# Altium integrated library MB1419.IntLib: 95 symbols
Pins are listed as number, name and electrical type; pins without a type are passive.

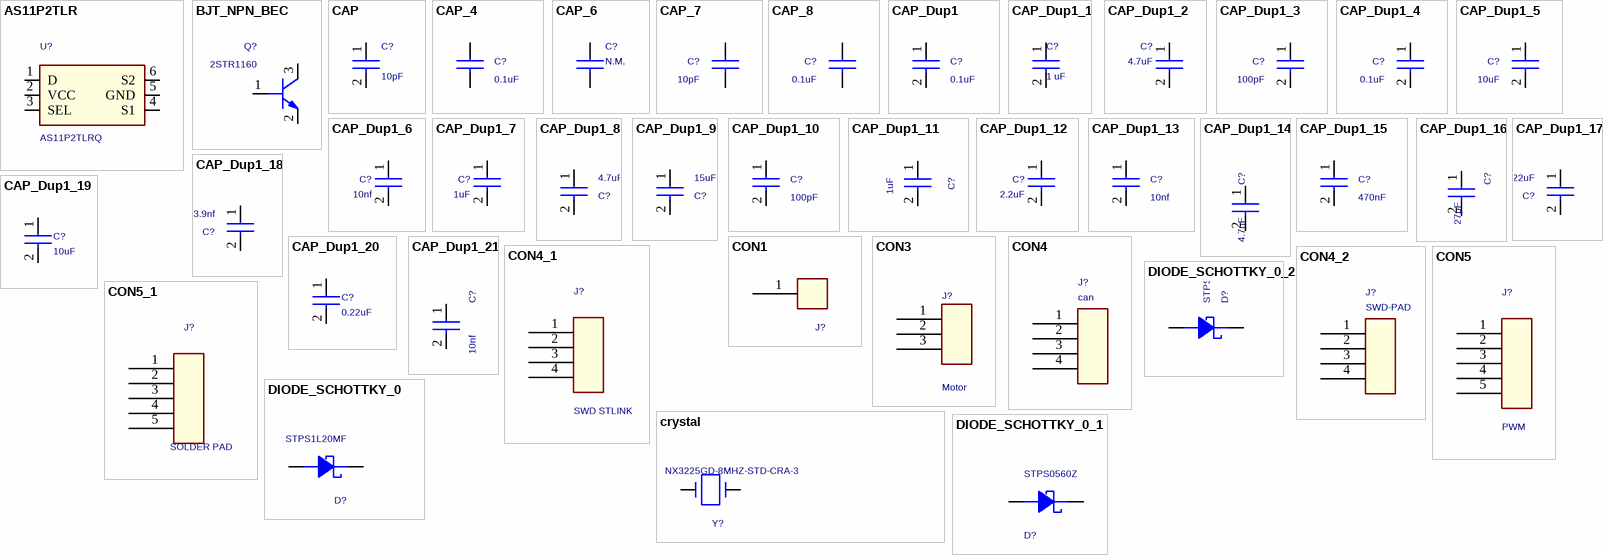
[diagram p0: symbols AS11P2TLR to DIODE_SCHOTTKY_0_2]

## AS11P2TLR
designator U?, comment AS11P2TLRQ
IC ANLG SWITCH SGL SPDT 6QFN; Manufacturer: STMicroelectronics; PART_NUMBER: TMP-378; Manufacturer PN: AS11P2TLRQ; CLASS: IC; Package Size: 6-UFDFN
footprint DIP-14
footprint son6p40_120x100x55l35x20
pins: 1 D, 2 VCC, 3 SEL, 4 S1, 5 GND, 6 S2

## BJT_NPN_BEC
designator Q?, comment 2STR1160
TRANS NPN 60V 1A SOT-23; PART_NUMBER: TMP-433; Manufacturer: STMicroelectronics; CLASS: DISCRETE; Package Size: TO-236-3, SC-59, SOT-23-3; Polarity: NPN; Manufacturer PN: 2STR1160
footprint sot23-3p97_255x140l40x40n
pins: 1 B, 2 E, 3 C

## CAP
designator C?, comment 10pF
CAP CER 10PF 10V C0G/NP0 0402; Manufacturer PN: 885012005007; Manufacturer: Wurth Electronics Inc.; PART_NUMBER: TMP-395; CLASS: DISCRETE; Tolerance: 5%; Temperature Coefficient: C0G, NP0; Dielectric Type: Capacitors; Rated Voltage: 10V; Package Size: 0402 (1005 Metric)
footprint C_0402
pins: 1, 2

## CAP_4
designator C?, comment 0.1uF
CAP CER 0.1UF 16V X7R 0402; Manufacturer PN: 885012205037; Manufacturer: Wurth Electronics Inc.; PART_NUMBER: CAP-00000053; CLASS: DISCRETE; Tolerance: 10%; Dielectric Type: Capacitors; Rated Voltage: 16V; Temperature Coefficient: X7R; Package Size: 0402 (1005 Metric)
footprint C_0402
pins: 1, 2

## CAP_6
designator C?, comment N.M.
CAP CER 0402-NOT MOUNTED; PART_NUMBER: TMP-408; CLASS: DISCRETE; Package Size: 0402 (1005 Metric)
footprint C_0402
pins: 1, 2

## CAP_7
designator C?, comment 10pF
CAP CER 10PF 10V C0G/NP0 0402; PART_NUMBER: TMP-395; Manufacturer: Wurth Electronics Inc.; Manufacturer PN: 885012005007; Dielectric Type: Capacitors; Temperature Coefficient: C0G, NP0; Tolerance: 5%; CLASS: DISCRETE; Package Size: 0402 (1005 Metric); Rated Voltage: 10V
footprint C_0402
pins: 1, 2

## CAP_8
designator C?, comment 0.1uF
CAP CER 0.1UF 16V X7R 0402; PART_NUMBER: CAP-00000053; Manufacturer: Wurth Electronics Inc.; Manufacturer PN: 885012205037; Dielectric Type: Capacitors; Tolerance: 10%; CLASS: DISCRETE; Package Size: 0402 (1005 Metric); Temperature Coefficient: X7R; Rated Voltage: 16V
footprint C_0402
pins: 1, 2

## CAP_Dup1
designator C?, comment 0.1uF
CAP CER 0.1UF 16V X7R 0402; PART_NUMBER: CAP-00000053; Manufacturer: Wurth Electronics Inc.; Manufacturer PN: 885012205037; Dielectric Type: Capacitors; Tolerance: 10%; CLASS: DISCRETE; Package Size: 0402 (1005 Metric); Temperature Coefficient: X7R; Rated Voltage: 16V
footprint C_0402
pins: 1, 2

## CAP_Dup1_1
designator C?, comment 1 uF
CAP CER 1UF 16V X5R 0603; PART_NUMBER: TMP-302; Manufacturer: Yageo; Manufacturer PN: CC0603KRX5R7BB105; Dielectric Type: Capacitors; Tolerance: 10%; CLASS: DISCRETE; Package Size: 0603 (1608 Metric); Temperature Coefficient: X5R; Rated Voltage: 16V
footprint C_0603
pins: 1, 2

## CAP_Dup1_2
designator C?, comment 4.7uF
CAP CER 4.7UF 16V X5R 0805; PART_NUMBER: TMP-410; Manufacturer: Wurth Electronics Inc.; Manufacturer PN: 885012107013; Dielectric Type: Capacitors; Tolerance: 20%; CLASS: DISCRETE; Package Size: 0805 (2012 Metric); Temperature Coefficient: X5R; Rated Voltage: 16V
footprint C_0805
pins: 1, 2

## CAP_Dup1_3
designator C?, comment 100pF
CAP CER 100PF 10V C0G/NP0 0402; PART_NUMBER: TMP-412; Manufacturer: Wurth Electronics Inc.; Manufacturer PN: 885012005013; Dielectric Type: Capacitors; Temperature Coefficient: C0G, NP0; Tolerance: 5%; CLASS: DISCRETE; Package Size: 0402 (1005 Metric); Rated Voltage: 10V
footprint C_0402
pins: 1, 2

## CAP_Dup1_4
designator C?, comment 0.1uF
CAP CER 0.1UF 16V X7R 0603; Manufacturer PN: 885012206046; Manufacturer: Wurth Electronics Inc.; PART_NUMBER: CAP-00000052; CLASS: DISCRETE; Tolerance: 10%; Dielectric Type: Capacitors; Rated Voltage: 16V; Temperature Coefficient: X7R; Package Size: 0603 (1608 Metric)
footprint C_0603
pins: 1, 2

## CAP_Dup1_5
designator C?, comment 10uF
CAP CER 10UF 16V X5R 0805; Manufacturer PN: 885012107014; Manufacturer: Wurth Electronics Inc.; PART_NUMBER: TMP-409; CLASS: DISCRETE; Tolerance: 20%; Dielectric Type: Capacitors; Rated Voltage: 16V; Temperature Coefficient: X5R; Package Size: 0805 (2012 Metric)
footprint C_0805
pins: 1, 2

## CAP_Dup1_6
designator C?, comment 10nf
CAP CER 10000PF 16V X7R 0402; PART_NUMBER: TMP-422; Manufacturer: Wurth Electronics Inc.; Manufacturer PN: 885012205031; Dielectric Type: Capacitors; Tolerance: 10%; CLASS: DISCRETE; Package Size: 0402 (1005 Metric); Temperature Coefficient: X7R; Rated Voltage: 16V
footprint C_0402
pins: 1, 2

## CAP_Dup1_7
designator C?, comment 1uF
CAP CER 1UF 25V X5R 0402; PART_NUMBER: CAP-00000006; Manufacturer: Murata Electronics North America; Manufacturer PN: GRM155R61E105KA12D; Dielectric Type: Capacitors; Tolerance: 10%; CLASS: DISCRETE; Package Size: 0402 (1005 Metric); Temperature Coefficient: X5R; Rated Voltage: 25V
footprint C_0402
pins: 1, 2

## CAP_Dup1_8
designator C?, comment 4.7uF
CAP CER 4.7UF 10V X5R 0603; Manufacturer PN: 885012106012; Manufacturer: Wurth Electronics Inc.; PART_NUMBER: TMP-414; CLASS: DISCRETE; Tolerance: 20%; Dielectric Type: Capacitors; Rated Voltage: 10V; Temperature Coefficient: X5R; Package Size: 0603 (1608 Metric)
footprint C_0603
pins: 1, 2

## CAP_Dup1_9
designator C?, comment 15uF
CAP CER 15UF 35V X5R 0805; PART_NUMBER: TMP-773; Manufacturer: TDK Corporation; Manufacturer PN: C2012X5R1V156M125AC; ALT_SYMBOLS: C_0805_hd; Dielectric Type: Capacitors; Tolerance: 20%; CLASS: DISCRETE; Package Size: 0805 (2012 Metric); Temperature Coefficient: X5R; Rated Voltage: 35V
footprint C_0805
footprint C_0805_HD
pins: 1, 2

## CAP_Dup1_10
designator C?, comment 100pF
CAP CER 100PF 25V X7R 0402; PART_NUMBER: TMP-426; Manufacturer: Wurth Electronics Inc.; Manufacturer PN: 885012205038; Dielectric Type: Capacitors; Tolerance: 10%; CLASS: DISCRETE; Package Size: 0402 (1005 Metric); Temperature Coefficient: X7R; Rated Voltage: 25V
footprint C_0402
pins: 1, 2

## CAP_Dup1_11
designator C?, comment 1uF
CAP CER 1UF 25V X7R 0603; PART_NUMBER: TMP-446; Manufacturer: Wurth Electronics Inc.; Manufacturer PN: 885012206076; ALT_SYMBOLS: c_0603_hd; Dielectric Type: Capacitors; Tolerance: 10%; CLASS: DISCRETE; Package Size: 0603 (1608 Metric); Temperature Coefficient: X7R; Rated Voltage: 25V
footprint C_0603
footprint C_0603_HD
pins: 1, 2

## CAP_Dup1_12
designator C?, comment 2.2uF
CAP CER 2.2UF 10V X5R 0402; PART_NUMBER: TMP-449; Manufacturer: Wurth Electronics Inc.; Manufacturer PN: 885012105013; Dielectric Type: Capacitors; Tolerance: 20%; CLASS: DISCRETE; Package Size: 0402 (1005 Metric); Temperature Coefficient: X5R; Rated Voltage: 10V
footprint C_0402
pins: 1, 2

## CAP_Dup1_13
designator C?, comment 10nf
CAP CER 10000PF 100V X7R 0603; PART_NUMBER: CAP-00000040; Manufacturer: YAGEO; Manufacturer PN: CC0603KRX7R0BB103; Dielectric Type: Capacitors; Tolerance: 20%; CLASS: DISCRETE; Package Size: 0603 (1608 Metric); Temperature Coefficient: X7R; Rated Voltage: 100V
footprint C_0603
pins: 1, 2

## CAP_Dup1_14
designator C?, comment 4.7nF
CAP CER 4700PF 16V X7R 0402; Manufacturer PN: 885012205029; Manufacturer: Wurth Electronics Inc.; PART_NUMBER: TMP-417; CLASS: DISCRETE; Tolerance: 10%; Dielectric Type: Capacitors; Rated Voltage: 16V; Temperature Coefficient: X7R; Package Size: 0402 (1005 Metric)
footprint C_0402
pins: 1, 2

## CAP_Dup1_15
designator C?, comment 470nF
CAP CER 0.47UF 25V X7R 0603; PART_NUMBER: TMP-428; Manufacturer: Wurth Electronics Inc.; Manufacturer PN: 885012206075; ALT_SYMBOLS: c_0603_hd; Dielectric Type: Capacitors; Tolerance: 10%; CLASS: DISCRETE; Package Size: 0603 (1608 Metric); Temperature Coefficient: X7R; Rated Voltage: 25V
footprint C_0603
footprint C_0603_HD
pins: 1, 2

## CAP_Dup1_16
designator C?, comment 27pF
CAP CER 27PF 25V C0G/NP0 0402; Manufacturer PN: CC0402JRNPO9BN270; Manufacturer: YAGEO; PART_NUMBER: TMP-416; CLASS: DISCRETE; Tolerance: 5%; Temperature Coefficient: C0G, NP0; Dielectric Type: Capacitors; Rated Voltage: 25V; Package Size: 0402 (1005 Metric)
footprint C_0402
pins: 1, 2

## CAP_Dup1_17
designator C?, comment 22uF
CAP CER 22UF 25V X5R 1206; Manufacturer PN: CL31A226KAHNNNE; Manufacturer: Samsung Electro-Mechanics; PART_NUMBER: TMP-421; CLASS: DISCRETE; Tolerance: 20%; Dielectric Type: Capacitors; Rated Voltage: 25V; Temperature Coefficient: X5R; Package Size: 1206 (3216 Metric)
footprint C_1206
pins: 1, 2

## CAP_Dup1_18
designator C?, comment 3.9nf
CAP CER 3900PF 16V X7R 0402; Manufacturer PN: C0402C392K4RAC7867; Manufacturer: KEMET; PART_NUMBER: TMP-419; CLASS: DISCRETE; Tolerance: 10%; Dielectric Type: Capacitors; Rated Voltage: 16V; Temperature Coefficient: X7R; Package Size: 0402 (1005 Metric)
footprint C_0402
pins: 1, 2

## CAP_Dup1_19
designator C?, comment 10uF
CAP CER 10UF 50V X7R 1206; Manufacturer PN: CL31B106KBHNNNE; Manufacturer: Samsung Electro-Mechanics America, Inc.; PART_NUMBER: CAP-00000016; CLASS: DISCRETE; Tolerance: 10%; Dielectric Type: Capacitors; Rated Voltage: 50V; Temperature Coefficient: X7R; Package Size: 1206 (3216 Metric)
footprint C_1206
pins: 1, 2

## CAP_Dup1_20
designator C?, comment 0.22uF
CAP CER 0.22UF 50V X7R 0603; Manufacturer PN: CGA3E3X7R1H224K080AD; Manufacturer: TDK Corporation; PART_NUMBER: TMP-138; CLASS: DISCRETE; Tolerance: 10%; Dielectric Type: Capacitors; ALT_SYMBOLS: c_0603_hd; Rated Voltage: 50V; Temperature Coefficient: X7R; Package Size: 0603 (1608 Metric)
footprint C_0603
footprint C_0603_HD
pins: 1, 2

## CAP_Dup1_21
designator C?, comment 10nf
CAP CER 10000PF 10V X7R 0402; PART_NUMBER: CAP-00000003; Manufacturer: Wurth Electronics Inc.; Manufacturer PN: 885012205012; Dielectric Type: Capacitors; Tolerance: 10%; CLASS: DISCRETE; Package Size: 0402 (1005 Metric); Temperature Coefficient: X7R; Rated Voltage: 10V
footprint C_0402
pins: 1, 2

## CON1
designator J?  (value not drawn)
SOLDER PADS
footprint wire1_220s
pins: 1

## CON3
designator J?, comment Motor
SOLDER PADS
footprint conn_motor_out
pins: 1, 2, 3

## CON4
designator J?, comment can
SOLDER PADS
footprint SOLDER_PAD_4PIN_SMD
pins: 1, 2, 3, 4

## CON4_1
designator J?, comment SWD STLINK
SOLDER PADS
footprint strip4_100m_v
pins: 1, 2, 3, 4

## CON4_2
designator J?, comment SWD-PAD
SOLDER PADS
footprint SOLDER_PAD_4PIN_rect_SMD
pins: 1, 2, 3, 4

## CON5
designator J?, comment PWM
SOLDER PADS
footprint SOLDER_PAD_5PIN_SMD
pins: 1, 2, 3, 4, 5

## CON5_1
designator J?, comment SOLDER PAD
SOLDER PADS
footprint SOLDER_PAD_5PIN_SMD
pins: 1, 2, 3, 4, 5

## crystal
designator Y?, comment NX3225GD-8MHZ-STD-CRA-3
CRYSTAL 8.0000MHZ 8PF SMD; Manufacturer: NDK America, Inc.; PART_NUMBER: TMP-435; CLASS: DISCRETE; Frequency Tolerance: 50ppm; Frequency Stability: 150ppm; Manufacturer PN: NX3225GD-8MHZ-STD-CRA-3; Package Size: 0.126" L x 0.098" W (3.20mm x 2.50mm)
footprint xtaldfn2_320x250x100l130x230
pins: 1, 2

## DIODE_SCHOTTKY_0
designator D?, comment STPS1L20MF
DIODE SCHOTTKY 20V 1A STMITEFLAT; Manufacturer: STMicroelectronics; PART_NUMBER: TMP-380; CLASS: DISCRETE; Rated Voltage: 430mV @ 1A; Manufacturer PN: STPS1L20MF; Package Size: DO-222AA
footprint do216-aa-flat
pins: A, C

## DIODE_SCHOTTKY_0_1
designator D?, comment STPS0560Z
DIODE SCHOTTKY 60V 500MA SOD123; Manufacturer: STMicroelectronics; PART_NUMBER: TMP-373; CLASS: DISCRETE; Rated Voltage: 530mV @ 500mA; Manufacturer PN: STPS0560Z; Package Size: SOD-123
footprint SOD_123
pins: A, C

## DIODE_SCHOTTKY_0_2
designator D?, comment STPS1L40M
DIODE SCHOTTKY 40V 1A STMITE; PART_NUMBER: TMP-372; Manufacturer: STMicroelectronics; Rated Voltage: 460mV @ 1A; CLASS: DISCRETE; Package Size: DO-216AA; Manufacturer PN: STPS1L40M
footprint do216-aa_stmite
pins: A, C

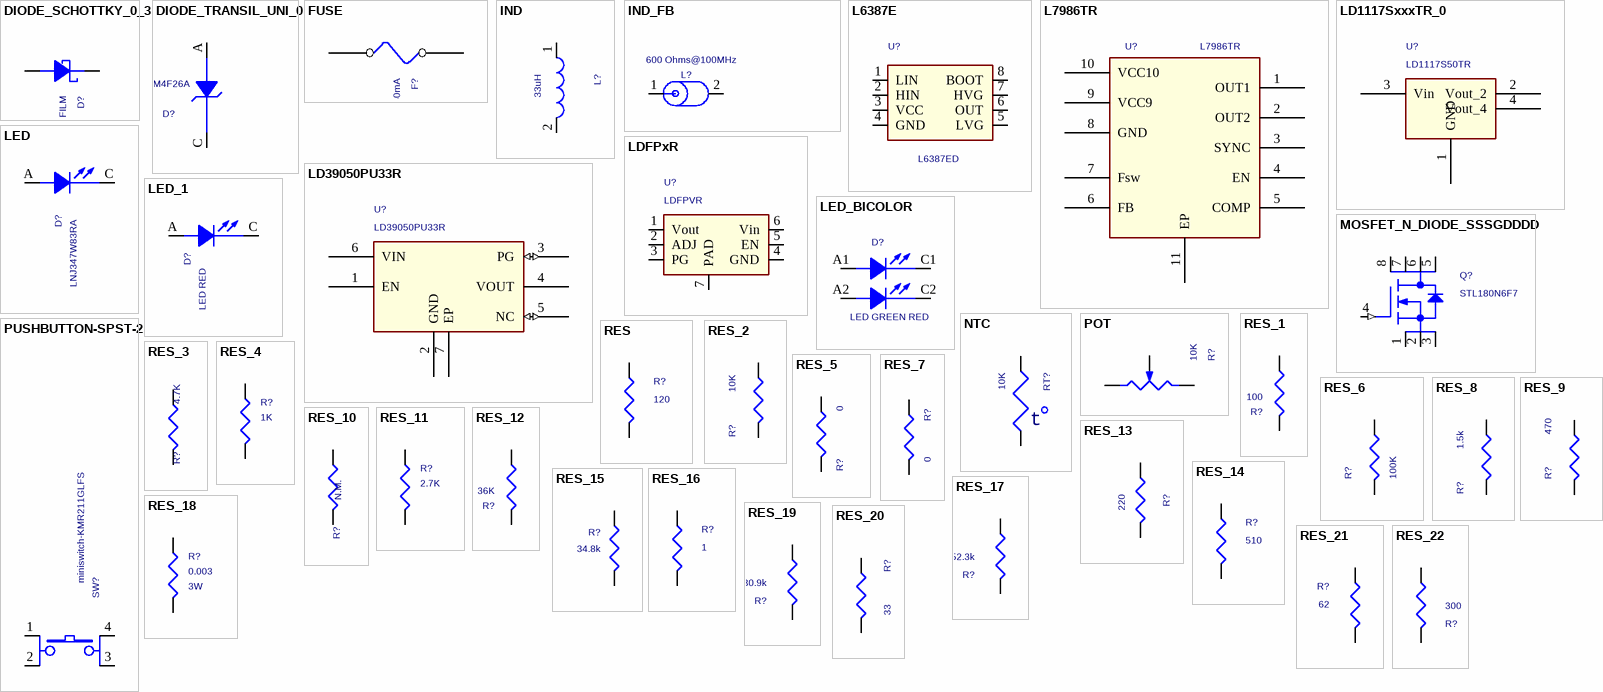
[diagram p1: symbols DIODE_SCHOTTKY_0_3 to RES_22]

## DIODE_SCHOTTKY_0_3
designator D?, comment BAT30KFILM
DIODE SCHOTTKY 30V 300MA SOD523; PART_NUMBER: TMP-46; Manufacturer: STMicroelectronics; Rated Voltage: 530mV @ 300mA; CLASS: DISCRETE; Package Size: SC-79, SOD-523; Manufacturer PN: BAT30KFILM
footprint sodfl160x80x65l30x30n
pins: A, C

## DIODE_TRANSIL_UNI_0
designator D?, comment SMM4F26A
TVS DIODE 26VWM 53.5VC DO222AA; Manufacturer PN: SMM4F26A-TR; Manufacturer: STMicroelectronics; PART_NUMBER: TMP-376; CLASS: DISCRETE; Package Size: DO-216AA FLAT
footprint do216-aa-flat
pins: A, C

## FUSE
designator F?, comment 250mA
FUSE BOARD MNT 250MA 32VDC 0402; Manufacturer Code: 0435.250KRS; Manufacturer: Littelfuse Inc.; PART_NUMBER: TMP-439; RS/Distrelec/Other Code: MOUSER: 576-0435.250KRS; CLASS: DISCRETE; Package Size: 0.039" L x 0.020" W x 0.013" H (0.99mm x 0.51mm x 0.33mm); Manufacturer PN: 0435.250KRS
footprint f_0402
pins: 1, 2

## IND
designator L?, comment 33uH
Fixed Inductors LPS4018 Low Profile 33uH 0.8A 20% SMD; Manufacturer PN: LPS4018-333MRB; Manufacturer: Coilcraft; PART_NUMBER: TMP-377; CLASS: DISCRETE; Tolerance: 20%; Package Size: 3.9x3.9x1.7
footprint ind_Coilcraft-LPS4018
pins: 1, 2

## IND_FB
designator L?, comment 600 Ohms@100MHz
FERRITE BEAD 600 OHM 0402 1LN; Manufacturer PN: BLM15BX601SN1D; Manufacturer: Murata Electronics North America; PART_NUMBER: TMP-492; CLASS: DISCRETE; Package Size: 0402 (1005 Metric)
footprint L_0402
pins: 1, 2

## L6387E
designator U?, comment L6387ED
IC DRIVER HI/LO SIDE HV 8-SOIC; Manufacturer: STMicroelectronics; PART_NUMBER: TMP-367; Supply Voltage: 17V (Max); Manufacturer PN: L6387ED; CLASS: IC; Package Size: 8-SOIC (0.154", 3.90mm Width)
footprint DIP-14
footprint SOIC8P127_490X600X175L83X42N
pins: 1 LIN, 2 HIN, 3 VCC, 4 GND, 5 LVG, 6 OUT, 7 HVG, 8 BOOT

## L7986TR
designator U?
IC REG BUCK ADJ 3A 10VDFPN; Manufacturer: STMicroelectronics; PART_NUMBER: TMP-362; Manufacturer PN: L7986TR; CLASS: IC; Package Size: 10-VFDFN Exposed Pad
footprint SOP127P-600X168-8-EP
footprint son11p50_300x300x100l40x24t2-1
pins: 1 OUT1, 2 OUT2, 3 SYNC, 4 EN, 5 COMP, 6 FB, 7 Fsw, 8 GND, 9 VCC9, 10 VCC10, 11 EP

## LD1117SxxxTR_0
designator U?, comment LD1117S50TR
IC REG LINEAR 5V 800MA SOT223; Manufacturer: STMicroelectronics; PART_NUMBER: TMP-381; Manufacturer PN: LD1117S50TR; CLASS: IC; Package Size: TO-261-4, TO-261AA
footprint SOT-89
footprint sot223-4p230_700x190l65x72
pins: 1 GND (power), 2 Vout_2, 3 Vin, 4 Vout_4

## LD39050PU33R
designator U?
IC REG LINEAR 3.3V 500MA 6DFN; PART_NUMBER: TMP-358; Manufacturer: STMicroelectronics; Package Size: 6-VDFN Exposed Pad; CLASS: IC; Manufacturer PN: LD39050PU33R
footprint son7p95_300x300x100l40x34t23-1
pins: 1 EN (power), 2 GND (power), 3 PG (io), 4 VOUT (power), 5 NC (io), 6 VIN (power), 7 EP (power)

## LDFPxR
designator U?, comment LDFPVR
IC REG LINEAR POS ADJ 1A 6DFN; Manufacturer: STMicroelectronics; PART_NUMBER: TMP-450; Manufacturer PN: LDFPVR; CLASS: IC; Package Size: 6-VDFN Exposed Pad
footprint DIP-14
footprint son7p65_200x200x100l25x30t18-1
pins: 1 Vout, 2 ADJ, 3 PG, 4 GND, 5 EN, 6 Vin, 7 PAD

## LED
designator D?, comment LNJ347W83RA
LED GREEN 0402 SMD; Manufacturer PN: 16-213SYGC/S530-E3/TR8; Manufacturer: Everlight Electronics; PART_NUMBER: TMP-187; CLASS: DISCRETE; Package Size: 0402 (1005 Metric)
footprint D_0402_Led_green
pins: A ANODE, C CATHODE

## LED_1
designator D?, comment LED RED
DIO, Rectangle with Flat Top, 1.00mm x 0.50mm, VLMS1500-GS08, 20mA, --, --, 0402 (1005 Metric); PART_NUMBER: DIO-00000003; Manufacturer: Vishay Semiconductor Opto Division; CLASS: DISCRETE; Package Size: 0402 (1005 Metric); Manufacturer PN: VLMS1500-GS08
footprint D_0402_Led_red
pins: A ANODE, C CATHODE

## LED_BICOLOR
designator D?, comment LED GREEN RED
LED GREEN/RED CLEAR 4PLCC SMD; PART_NUMBER: TMP-705; Manufacturer: Wurth Electronics Inc.; Manufacturer PN: 150141RV73100; CLASS: DISCRETE; Package Size: 4-PLCC
footprint Led_bicolor_3528-PLCC-4
pins: A1 ANODE1, A2 ANODE2, C1 CATHODE1, C2 CATHODE2

## MOSFET_N_DIODE_SSSGDDDD
designator Q?, comment STL180N6F7
N-channel 60 V, 1.9 mO typ., 120 A STripFET™ F7; PART_NUMBER: TMP-772; Manufacturer: STMicroelectronics; CLASS: DISCRETE; Rated Voltage: 60V; Package Size: PowerFLAT 5x6; Manufacturer PN: STL180N6F7
footprint power_flat_5x6
pins: 1 S1, 2 S2, 3 S3, 4 G (in), 5 D, 6 D6, 7 D7, 8 D8

## NTC
designator RT?, comment 10K
NTC THERMISTOR 10K OHM 1% 0402; Manufacturer PN: NTCG103JF103FT1; Manufacturer: TDK Corporation; PART_NUMBER: TMP-423; CLASS: DISCRETE; Package Size: 0402 (1005 Metric)
footprint R_0402
pins: 1, 2
text: t

## POT
designator R?, comment 10K
TRIMMER 10K OHM 0.5W PC PIN; PART_NUMBER: TMP-491; Manufacturer: Bourns Inc.; Manufacturer PN: 3386P-1-103TLF; Temperature Coefficient: 100ppm/C; Tolerance: 10%; Rated Power: 0.5W, 1/2W; CLASS: DISCRETE; Package Size: Square - 0.375" x 0.375" Face x 0.190" H (9.53mm x 9.53mm x 4.83mm)
footprint trimmer-3386P_T
pins: 1 A, 2 WIPER, 3 B

## PUSHBUTTON-SPST-2
designator SW?, comment miniswitch-KMR211GLFS
SWITCH TACTILE SPST-NO 0.05A 32V; Manufacturer: C&K; PART_NUMBER: TMP-285; CLASS: DISCRETE; Manufacturer PN: KMR211GLFS; Package Size: 4.60mm x 2.80mm
footprint switch_SMT_4_2x2_8mm
pins: 1, 2, 3, 4

## RES
designator R?, comment 120
RES SMD 120 OHM 1% 1/16W 0402; PART_NUMBER: TMP-441; Manufacturer: Yageo; Manufacturer PN: RC0402FR-07120RL; Temperature Coefficient: 100ppm/C; Rated Power: 0.063W, 1/16W; CLASS: DISCRETE; Package Size: 0402 (1005 Metric); Tolerance: 1%
footprint R_0402
pins: 1, 2

## RES_1
designator R?, comment 100
RES SMD 100 OHM 1% 1/16W 0402; PART_NUMBER: TMP-406; Manufacturer: TE Connectivity Passive Product; Manufacturer PN: CRG0402F100R; Temperature Coefficient: 100ppm/C; Rated Power: 0.063W, 1/16W; CLASS: DISCRETE; Package Size: 0402 (1005 Metric); Tolerance: 1%
footprint R_0402
pins: 1, 2

## RES_2
designator R?, comment 10K
RES SMD 10K OHM 1% 1/16W 0402; PART_NUMBER: TMP-396; Manufacturer: Yageo; Manufacturer PN: RC0402FR-0710KL; Temperature Coefficient: 100ppm/C; Rated Power: 0.063W, 1/16W; CLASS: DISCRETE; Package Size: 0402 (1005 Metric); Tolerance: 1%
footprint R_0402
pins: 1, 2

## RES_3
designator R?, comment 4.7K
RES SMD 4.7K OHM 1% 1/16W 0402; PART_NUMBER: TMP-403; Manufacturer: TE Connectivity Passive Product; Manufacturer PN: CRG0402F4K7; Temperature Coefficient: 100ppm/C; Rated Power: 0.063W, 1/16W; CLASS: DISCRETE; Package Size: 0402 (1005 Metric); Tolerance: 1%
footprint R_0402
pins: 1, 2

## RES_4
designator R?, comment 1K
RES SMD 1K OHM 1% 1/16W 0402; PART_NUMBER: TMP-352; Manufacturer: Yageo; Manufacturer PN: RC0402FR-071KL; Temperature Coefficient: 100ppm/C; Rated Power: 0.063W, 1/16W; CLASS: DISCRETE; ALT_SYMBOLS: r_0402_hd; Package Size: 0402 (1005 Metric); Tolerance: 1%
footprint R_0402
pins: 1, 2

## RES_5
designator R?, comment 0
RES SMD 0 OHM JUMPER 1/16W 0402; Manufacturer PN: CRCW04020000Z0ED; Manufacturer: Vishay Dale; PART_NUMBER: RES-00000073; CLASS: DISCRETE; Rated Power: 0.063W, 1/16W; Tolerance: Jumper; Temperature Coefficient: -; Package Size: 0402 (1005 Metric)
footprint R_0402
pins: 1, 2

## RES_6
designator R?, comment 100K
RES SMD 100K OHM 1% 1/16W 0402; Manufacturer PN: CRG0402F100K; Manufacturer: TE Connectivity Passive Product; PART_NUMBER: TMP-405; CLASS: DISCRETE; Rated Power: 0.063W, 1/16W; Temperature Coefficient: 100ppm/C; Tolerance: 1%; Package Size: 0402 (1005 Metric)
footprint R_0402
pins: 1, 2

## RES_7
designator R?, comment 0
RES SMD 0 OHM JUMPER 1/10W 0603; Manufacturer PN: ERJ-3GEY0R00V; Manufacturer: Panasonic Electronic Components; PART_NUMBER: RES-00000056; CLASS: DISCRETE; Rated Power: 0.1W, 1/10W; Tolerance: Jumper; Temperature Coefficient: -; Package Size: 0603 (1608 Metric)
footprint JUMPER_0603_DROP
pins: 1, 2

## RES_8
designator R?, comment 1.5k
RES SMD 1.5K OHM 1% 1/16W 0402; PART_NUMBER: TMP-393; Manufacturer: Yageo; Manufacturer PN: RC0402FR-071K5L; Temperature Coefficient: 100ppm/C; Rated Power: 0.063W, 1/16W; CLASS: DISCRETE; Package Size: 0402 (1005 Metric); Tolerance: 1%
footprint R_0402
pins: 1, 2

## RES_9
designator R?, comment 470
RES SMD 100 OHM 1% 1/16W 0402; PART_NUMBER: TMP-406; Manufacturer: TE Connectivity Passive Product; Manufacturer PN: CRG0402F100R; Temperature Coefficient: 100ppm/C; Rated Power: 0.063W, 1/16W; CLASS: DISCRETE; Package Size: 0402 (1005 Metric); Tolerance: 1%
footprint R_0402
pins: 1, 2

## RES_10
designator R?, comment N.M.
RES SMD 0402 - NOT MOUNTED; PART_NUMBER: TMP-404; CLASS: DISCRETE; Package Size: 0402 (1005 Metric)
footprint R_0402
pins: 1, 2

## RES_11
designator R?, comment 2.7K
RES SMD 2.7K OHM 1% 1/16W 0402; PART_NUMBER: TMP-411; Manufacturer: Yageo; Manufacturer PN: RC0402FR-072K7L; Temperature Coefficient: 100ppm/C; Rated Power: 0.063W, 1/16W; CLASS: DISCRETE; Package Size: 0402 (1005 Metric); Tolerance: 1%
footprint R_0402
pins: 1, 2

## RES_12
designator R?, comment 36K
RES SMD 36K OHM 1% 1/16W 0402; Manufacturer PN: RC0402FR-0736KL; Manufacturer: Yageo; PART_NUMBER: TMP-436; CLASS: DISCRETE; Rated Power: 0.063W, 1/16W; Temperature Coefficient: 100ppm/C; Tolerance: 1%; Package Size: 0402 (1005 Metric)
footprint R_0402
pins: 1, 2

## RES_13
designator R?, comment 220
RES SMD 220 OHM 1% 1/16W 0402; PART_NUMBER: TMP-437; Manufacturer: Yageo; Manufacturer PN: RC0402FR-07220RL; Temperature Coefficient: 100ppm/C; Rated Power: 0.063W, 1/16W; CLASS: DISCRETE; Package Size: 0402 (1005 Metric); Tolerance: 1%
footprint R_0402
pins: 1, 2

## RES_14
designator R?, comment 510
RES SMD 510 OHM 1% 1/16W 0402; PART_NUMBER: TMP-438; Manufacturer: Yageo; Manufacturer PN: RC0402FR-07510RL; Temperature Coefficient: 100ppm/C; Rated Power: 0.063W, 1/16W; CLASS: DISCRETE; Package Size: 0402 (1005 Metric); Tolerance: 1%
footprint R_0402
pins: 1, 2

## RES_15
designator R?, comment 34.8k
RES SMD 34.8K OHM 1% 1/16W 0402; Manufacturer PN: RC0402FR-0734K8L; Manufacturer: Yageo; PART_NUMBER: TMP-415; CLASS: DISCRETE; Rated Power: 0.063W, 1/16W; Temperature Coefficient: 100ppm/C; Tolerance: 1%; Package Size: 0402 (1005 Metric)
footprint R_0402
pins: 1, 2

## RES_16
designator R?, comment 1
RES SMD 1 OHM 5% 1/8W 0805; PART_NUMBER: TMP-430; Manufacturer: Panasonic Electronic Components; Manufacturer PN: ERJ-6GEYJ1R0V; Temperature Coefficient: -100/ +600ppm/C; Rated Power: 0.125W, 1/8W; CLASS: DISCRETE; Package Size: 0805 (2012 Metric); Tolerance: 5%
footprint R_0805
pins: 1, 2

## RES_17
designator R?, comment 52.3k
RES SMD 52.3K OHM 1% 1/16W 0402; Manufacturer PN: RC1005F5232CS; Manufacturer: Samsung Electro-Mechanics; PART_NUMBER: TMP-447; CLASS: DISCRETE; Rated Power: 0.063W, 1/16W; Temperature Coefficient: 100ppm/C; Tolerance: 1%; Package Size: 0402 (1005 Metric)
footprint R_0402
pins: 1, 2

## RES_18
designator R?, comment 0.003  Rated Power: 3W
RES 0.003 OHM 1% 3W 2512; PART_NUMBER: TMP-766; Manufacturer: ROHM; Manufacturer PN: PSR100KTQFL3L00; Temperature Coefficient: 50ppm/C; CLASS: DISCRETE; Package Size: 2512 (6432 Metric); Tolerance: 1%
footprint resc635x300x60l193n
pins: 1, 2

## RES_19
designator R?, comment 30.9k
RES SMD 30.9K OHM 1% 1/10W 0402; PART_NUMBER: TMP-448; Manufacturer: Panasonic Electronic Components; Manufacturer PN: ERJ-2RKF3092X; Temperature Coefficient: 100ppm/C; Rated Power: 0.1W, 1/10W; CLASS: DISCRETE; Package Size: 0402 (1005 Metric); Tolerance: 1%
footprint R_0402
pins: 1, 2

## RES_20
designator R?, comment 33
RES SMD 33 OHM 1% 1/10W 0603; Manufacturer PN: 9C06031A33R0FKHFT; Manufacturer: Yageo; PART_NUMBER: TMP-266; ALT_SYMBOLS: r_0603_hd; CLASS: DISCRETE; Rated Power: 0.1W, 1/10W; Temperature Coefficient: 100ppm/C; Tolerance: 1%; Package Size: 0603 (1608 Metric)
footprint R_0603
footprint R_0603_HD
pins: 1, 2

## RES_21
designator R?, comment 62
RES SMD 62 OHM 1% 1/16W 0402; Manufacturer PN: RC0402FR-0762RL; Manufacturer: Yageo; PART_NUMBER: TMP-420; CLASS: DISCRETE; Rated Power: 0.063W, 1/16W; Temperature Coefficient: 100ppm/C; Tolerance: 1%; Package Size: 0402 (1005 Metric)
footprint R_0402
pins: 1, 2

## RES_22
designator R?, comment 300
RES SMD 300 OHM 1% 1/16W 0402; PART_NUMBER: TMP-418; Manufacturer: Yageo; Manufacturer PN: RC0402FR-07300RL; Temperature Coefficient: 100ppm/C; Rated Power: 0.063W, 1/16W; CLASS: DISCRETE; Package Size: 0402 (1005 Metric); Tolerance: 1%
footprint R_0402
pins: 1, 2

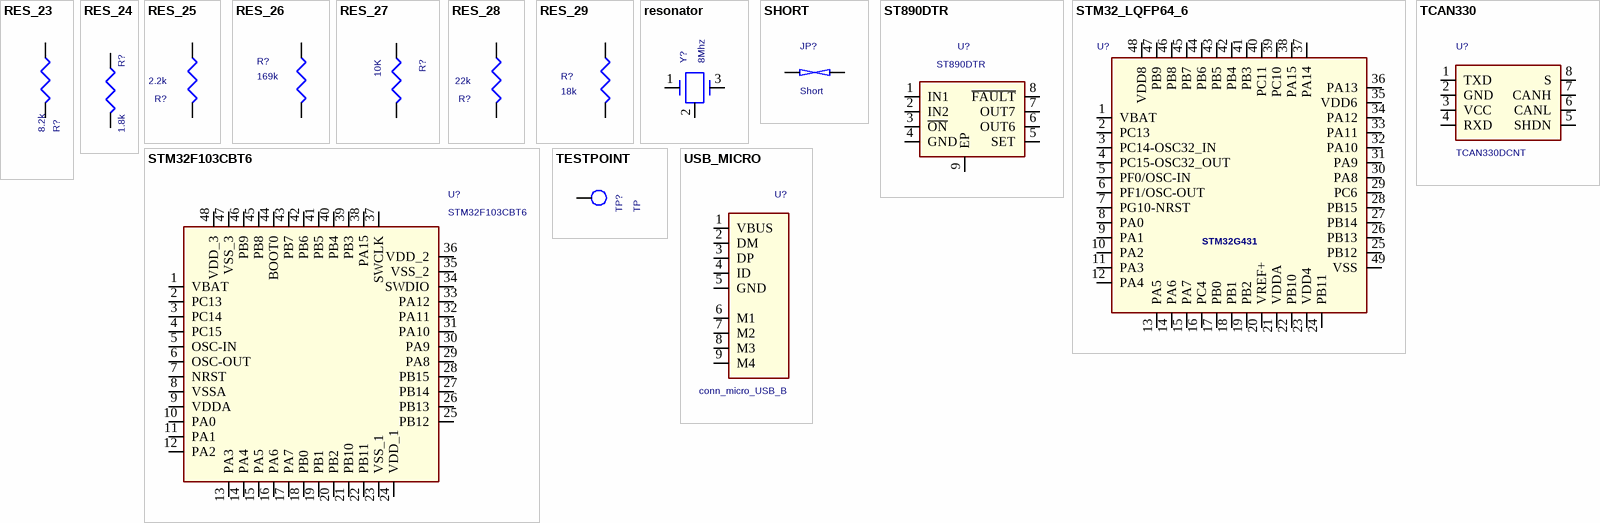
[diagram p2: symbols RES_23 to USB_MICRO]

## RES_23
designator R?, comment 8.2k
RES SMD 8.2K OHM 5% 1/16W 0402; Manufacturer PN: RC0402JR-078K2L; Manufacturer: Yageo; PART_NUMBER: RES-00000047; CLASS: DISCRETE; Rated Power: 0.063W, 1/16W; Temperature Coefficient: 100ppm/C; Tolerance: 5%; Package Size: 0402 (1005 Metric)
footprint R_0402
pins: 1, 2

## RES_24
designator R?, comment 1.8k
RES SMD 1.8K OHM 1% 1/16W 0402; PART_NUMBER: TMP-394; Manufacturer: Yageo; Manufacturer PN: RC0402FR-071K8L; Temperature Coefficient: 100ppm/C; Rated Power: 0.063W, 1/16W; CLASS: DISCRETE; Package Size: 0402 (1005 Metric); Tolerance: 1%
footprint R_0402
pins: 1, 2

## RES_25
designator R?, comment 2.2k
RES SMD 2.2K OHM 1% 1/16W 0402; PART_NUMBER: TMP-444; Manufacturer: Yageo; Manufacturer PN: RC0402FR-072K2L; Temperature Coefficient: 100ppm/C; Rated Power: 0.063W, 1/16W; CLASS: DISCRETE; Package Size: 0402 (1005 Metric); Tolerance: 1%
footprint R_0402
pins: 1, 2

## RES_26
designator R?, comment 169k
RES SMD 169K OHM 1% 1/16W 0402; PART_NUMBER: TMP-424; Manufacturer: Yageo; Manufacturer PN: RC0402FR-07169KL; Temperature Coefficient: 100ppm/C; Rated Power: 0.063W, 1/16W; CLASS: DISCRETE; Package Size: 0402 (1005 Metric); Tolerance: 1%
footprint R_0402
pins: 1, 2

## RES_27
designator R?, comment 10K
RES SMD 10K OHM 1% 1/10W 0603; PART_NUMBER: RES-00000015; Manufacturer: Yageo; Manufacturer PN: RC0603FR-0710KL; ALT_SYMBOLS: r_0603_hd; Temperature Coefficient: 100ppm/C; Rated Power: 0.1W, 1/10W; CLASS: DISCRETE; Package Size: 0603 (1608 Metric); Tolerance: 1%
footprint R_0603
footprint R_0603_HD
pins: 1, 2

## RES_28
designator R?, comment 22k
RES SMD 22K OHM 1% 1/10W 0402; PART_NUMBER: TMP-751; Manufacturer: Panasonic Electronic Components; Manufacturer PN: ERJ-2RKF2202X; Temperature Coefficient: 100ppm/C; Rated Power: 0.1W, 1/10W; CLASS: DISCRETE; Package Size: 0402 (1005 Metric); Tolerance: 1%
footprint r_0402
pins: 1, 2

## RES_29
designator R?, comment 18k
RES SMD 18K OHM 1% 1/16W 0402; PART_NUMBER: TMP-425; Manufacturer: Yageo; Manufacturer PN: RC0402FR-0718KL; Temperature Coefficient: 100ppm/C; Rated Power: 0.063W, 1/16W; CLASS: DISCRETE; Package Size: 0402 (1005 Metric); Tolerance: 1%
footprint R_0402
pins: 1, 2

## resonator
designator Y?, comment 8Mhz
CER RES 8.0000MHZ 33PF SMD; Manufacturer PN: CSTNE8M00GH5C000R0; Manufacturer: Murata Electronics North America; PART_NUMBER: TMP-382; CLASS: DISCRETE; Frequency Tolerance: 0.1%; Frequency Stability: 0.13%; Package Size: 0.126" L x 0.051" W (3.20mm x 1.30mm)
footprint murata_cstce8m00g15c99-r0
pins: 1, 2, 3

## SHORT
designator JP?, comment Short
2 PIN SHORTED TO CONNECT DIFFERENT NETS; PART_NUMBER: TMP-442; CLASS: DISCRETE
footprint CurrentSense
footprint SHORT
pins: 1, 2

## ST890DTR
designator U?
IC PWR SWITCH 1.2A HISIDE 8-DFN; Manufacturer: STMicroelectronics; PART_NUMBER: TMP-432; Supply Voltage: Not Required; Manufacturer PN: ST890DTR; CLASS: IC; Package Size: 8-VDFN Exposed Pad
footprint DIP-14
footprint son9p65_300x300x90l30x30t240-1
pins: 1 IN1, 2 IN2, 3 ~{ON}, 4 GND, 5 SET, 6 OUT6, 7 OUT7, 8 ~{FAULT}, 9 EP

## STM32_LQFP64_6
designator U?, comment STM32G431
footprint qfn49p50_700x700x60l40x25t560n
pins: 1 VBAT, 2 PC13, 3 PC14-OSC32_IN, 4 PC15-OSC32_OUT, 5 PF0/OSC-IN, 6 PF1/OSC-OUT, 7 PG10-NRST, 8 PA0, 9 PA1, 10 PA2, 11 PA3, 12 PA4, 13 PA5, 14 PA6, 15 PA7, 16 PC4, 17 PB0, 18 PB1, 19 PB2, 20 VREF+, 21 VDDA, 22 PB10, 23 VDD4, 24 PB11, 25 PB12, 26 PB13, 27 PB14, 28 PB15, 29 PC6, 30 PA8, 31 PA9, 32 PA10, 33 PA11, 34 PA12, 35 VDD6, 36 PA13, 37 PA14, 38 PA15, 39 PC10, 40 PC11, 41 PB3, 42 PB4, 43 PB5, 44 PB6, 45 PB7, 46 PB8, 47 PB9, 48 VDD8, 49 VSS

## STM32F103CBT6
designator U?
IC MCU 32BIT 128KB FLASH 48LQFP; PART_NUMBER: TMP-399; Manufacturer: STMicroelectronics; Supply Voltage: 2 V ~ 3.6 V; Package Size: 48-LQFP; CLASS: IC; Manufacturer PN: STM32F103CBT6
footprint qfp48p50_900x900x160l60x22n
pins: 1 VBAT, 2 PC13, 3 PC14, 4 PC15, 5 OSC-IN, 6 OSC-OUT, 7 NRST, 8 VSSA, 9 VDDA, 10 PA0, 11 PA1, 12 PA2, 13 PA3, 14 PA4, 15 PA5, 16 PA6, 17 PA7, 18 PB0, 19 PB1, 20 PB2, 21 PB10, 22 PB11, 23 VSS_1, 24 VDD_1, 25 PB12, 26 PB13, 27 PB14, 28 PB15, 29 PA8, 30 PA9, 31 PA10, 32 PA11, 33 PA12, 34 SWDIO, 35 VSS_2, 36 VDD_2, 37 SWCLK, 38 PA15, 39 PB3, 40 PB4, 41 PB5, 42 PB6, 43 PB7, 44 BOOT0, 45 PB8, 46 PB9, 47 VSS_3, 48 VDD_3

## TCAN330
designator U?, comment TCAN330DCNT
IC TXRX CAN 3.3V SOT-23; PART_NUMBER: TMP-379; Manufacturer: Texas Instruments; Supply Voltage: 3 V ~ 3.6 V; Package Size: SOT-23-8; CLASS: IC; Manufacturer PN: TCAN330DCNT
footprint DIP-14
footprint sot23-8p65_280x145l45x30n
pins: 1 TXD, 2 GND, 3 VCC, 4 RXD, 5 SHDN, 6 CANL, 7 CANH, 8 S

## TESTPOINT
designator TP?, comment TP
TEST POINT 1MM  SMD PADSTASCK; PART_NUMBER: TMP-386; CLASS: IO
footprint test_point_100_smd
pins: 1

## USB_MICRO
designator U?, comment conn_micro_USB_B
CONN RCPT 5POS MICRO USB R/A; Manufacturer PN: 0473460001; Manufacturer: Molex, LLC; PART_NUMBER: TMP-434; CLASS: IO
footprint conn_micro_USB_B_SMD
pins: 1 VBUS, 2 DM, 3 DP, 4 ID, 5 GND, 6 M1, 7 M2, 8 M3, 9 M4